# EAGLE library part 14DIL_LASER (library laser)
QPhotonics 14 pin DIL laser
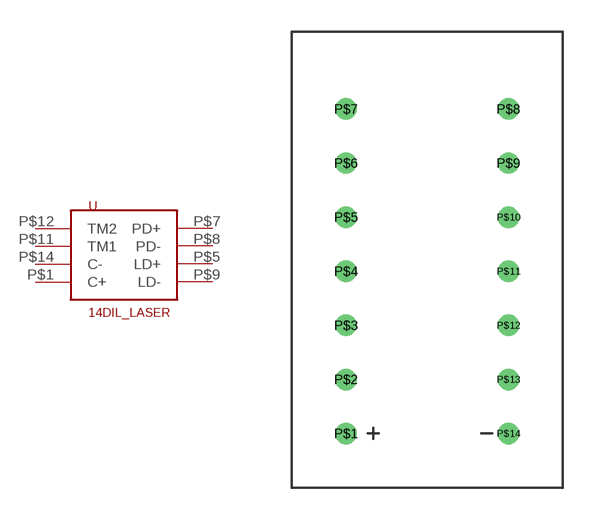
[diagram p0: symbol with the pads of 14DIL; footprint 14DIL]

Designator prefix -

## 14DIL_LASER  [14DIL]
P$1  C+
P$5  LD+
P$7  PD+
P$8  PD-
P$9  LD-
P$11  TM1
P$12  TM2
P$14  C-

## Footprint 14DIL (pad centres in mm)
14 pin DIL laser
drill 0.5: P$1 0,0; P$2 0,2.54; P$3 0,5.08; P$4 0,7.62; P$5 0,10.16; P$6 0,12.7; P$7 0,15.24; P$8 7.62,15.24; P$9 7.62,12.7; P$10 7.62,10.16; P$11 7.62,7.62; P$12 7.62,5.08; P$13 7.62,2.54; P$14 7.62,0